# Altium schematic symbol library DAC8801.SchLib: 1 symbol
Pins are listed as number, name and electrical type; pins without a type are passive.

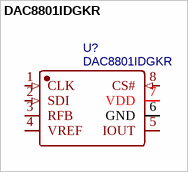
[diagram p0: symbol DAC8801IDGKR]

## DAC8801IDGKR
designator U?
14 位单通道串行接口乘法数模转换器; Manufacturer: TI(德州仪器); Contributor: LCSC; Supplier: LCSC; Supplier Part: C2862845; Manufacturer Part: DAC8801IDGKR; JLCPCB Part Class: Extended Part; spicePre: U; spiceSymbolName: DAC8801IDGKR
footprint VSSOP-8_L3.0-W3.0-P0.65-LS5.0-BL
pins: 1 CLK (in), 2 SDI (in), 3 RFB, 4 VREF, 5 IOUT, 6 GND (power), 7 VDD (power), 8 CS# (in)